# EAGLE library part ADS1216_1 (library Dmitry)
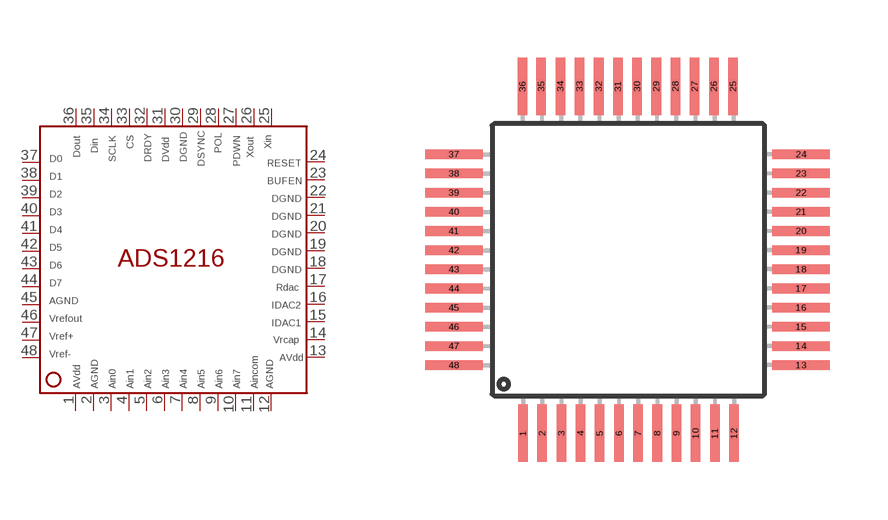
[diagram p1: symbol with the pads of ADS1216_PAC; footprint ADS1216_PAC]

Designator prefix U

## ADS1216_1ADS1216  [ADS1216_PAC]
1  P$1
2  P$2
3  P$3
4  P$4
5  P$5
6  P$6
7  P$7
8  P$8
9  P$9
10  P$10
11  P$11
12  P$12
13  P$13
14  P$14
15  P$15
16  P$16
17  P$17
18  P$18
19  P$19
20  P$20
21  P$21
22  P$22
23  P$23
24  P$24
25  P$25
26  P$26
27  P$27
28  P$28
29  P$29
30  P$30
31  P$31
32  P$32
33  P$33
34  P$34
35  P$35
36  P$36
37  P$37
38  P$38
39  P$39
40  P$40
41  P$41
42  P$42
43  P$43
44  P$44
45  P$45
46  P$46
47  P$47
48  P$48

## Footprint ADS1216_PAC (pad centres in mm)
Thin Quad Flat Pack package type TQ
smd 0.25 x 1.5: 1 -2.52,-3.258; 2 -2.02,-3.258; 3 -1.52,-3.258; 4 -1.02,-3.258; 5 -0.52,-3.258; 6 -0.02,-3.258; 7 0.48,-3.258; 8 0.98,-3.258; 9 1.48,-3.258; 10 1.98,-3.258; 11 2.48,-3.258; 12 2.98,-3.258; 25 2.955,5.792; 26 2.455,5.792; 27 1.955,5.792; 28 1.455,5.792; 29 0.955,5.792; 30 0.455,5.792; 31 -0.045,5.792; 32 -0.545,5.792; 33 -1.045,5.792; 34 -1.545,5.792; 35 -2.045,5.792; 36 -2.533,5.785
smd 1.5 x 0.25: 13 4.73,-1.483; 14 4.73,-0.983; 15 4.73,-0.483; 16 4.73,0.017; 17 4.73,0.517; 18 4.73,1.017; 19 4.73,1.517; 20 4.73,2.017; 21 4.73,2.517; 22 4.73,3.017; 23 4.73,3.517; 24 4.73,4.017; 37 -4.32,4.017; 38 -4.32,3.517; 39 -4.32,3.017; 40 -4.32,2.517; 41 -4.32,2.017; 42 -4.32,1.517; 43 -4.32,1.017; 44 -4.32,0.517; 45 -4.32,0.017; 46 -4.32,-0.483; 47 -4.32,-0.983; 48 -4.32,-1.483